# Altium footprint library Diode.PcbLib: 1 footprints
Each footprint in its own frame and in the unit in brackets; x right, y up, seen from the top. Pads: shape width x height; smd on the part's side, far side on the other; paste and mask are expansions set on the pad; w line width, h text height; cw(c..) or ccw(c..) is an arc to the next point about the centre after c.
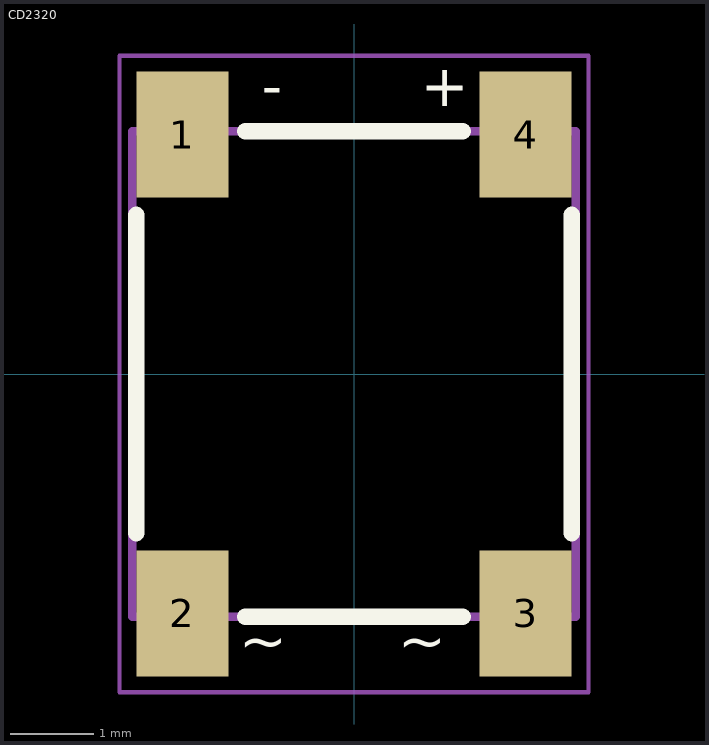
[diagram p0: the footprint, top view; thin cyan lines are the x and y axes]

## CD2320 [mm]
pads (4):
  rect 1.1x1.5 smd: 1(-2.05,2.86) 2(-2.05,-2.86) 3(2.05,-2.86) 4(2.05,2.86)
Top Overlay:
  lines w0.2: -2.6,-1.9 -2.6,1.9 ; -1.3,-2.9 1.3,-2.9 ; -1.3,2.9 1.3,2.9 ; 2.6,-1.9 2.6,1.9
  text "-" at -1.1,3.2 h0.5
  text "+" at 0.8,3.2 h0.5
  text "~" at -0.8,-3 h0.5
  text "~" at 1.1,-3 h0.5
Mechanical 13:
  lines w0.1: -2.65,-2.9 -2.65,2.9 2.65,2.9 2.65,-2.9 -2.65,-2.9
Mechanical 15:
  lines w0.05: -2.8,-3.8 -2.8,3.8 2.8,3.8 2.8,-3.8 -2.8,-3.8
  text ".Designator" at -2.1,-0.2 h1
3D body "cd2320-b1600_color.stp": height 1.01, standoff 0, extent -2.65,-2.9 2.65,2.9